# EAGLE library part MIC826RYMT-TR (library mic826rymt-tr)
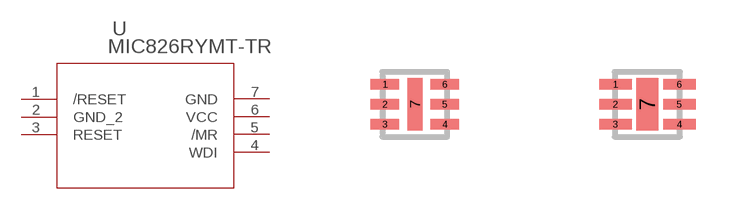
[diagram p0: symbol with the pads of UDFN6_HKA_MCH; footprints UDFN6_HKA_MCH, UDFN6_HKA_MCH-M]

Designator prefix U

## MIC826RYMT-TR (COPYRIGHT: Copyright (C) 2023 Ultra Librarian. All rights reserved.; DIGI-KEY_PART_NUMBER_1: 576-4360-1-ND; DIGI-KEY_PART_NUMBER_2: 576-4360-2-ND; DIGI-KEY_PART_NUMBER_3: 576-4360-6-ND; MANUFACTURER_PART_NUMBER: MIC826RYMT-TR; MFR_NAME: Microchip)  [UDFN6_HKA_MCH]
1  /RESET  out
2  GND_2  pwr
3  RESET  out
4  WDI  in
5  /MR  in
6  VCC  pwr
7  GND  pas

## MIC826RYMT-TRUDFN6_HKA_MCH-M (COPYRIGHT: Copyright (C) 2023 Ultra Librarian. All rights reserved.; DIGI-KEY_PART_NUMBER_1: 576-4360-1-ND; DIGI-KEY_PART_NUMBER_2: 576-4360-2-ND; DIGI-KEY_PART_NUMBER_3: 576-4360-6-ND; MANUFACTURER_PART_NUMBER: MIC826RYMT-TR; MFR_NAME: Microchip)  [UDFN6_HKA_MCH-M]
Pads as for UDFN6_HKA_MCH

## MIC826RYMT-TRUDFN6_HKA_MCH-L (COPYRIGHT: Copyright (C) 2023 Ultra Librarian. All rights reserved.; DIGI-KEY_PART_NUMBER_1: 576-4360-1-ND; DIGI-KEY_PART_NUMBER_2: 576-4360-2-ND; DIGI-KEY_PART_NUMBER_3: 576-4360-6-ND; MANUFACTURER_PART_NUMBER: MIC826RYMT-TR; MFR_NAME: Microchip)  [UDFN6_HKA_MCH-L]
Pads as for UDFN6_HKA_MCH

## Footprint UDFN6_HKA_MCH (pad centres in mm)
smd 0.711 x 0.254: 1 -0.749,0.5; 2 -0.749,0; 3 -0.749,-0.5; 4 0.749,-0.5; 5 0.749,0; 6 0.749,0.5
smd 0.381 x 1.321: 7 0,0

## Footprint UDFN6_HKA_MCH-M (pad centres in mm)
smd 0.813 x 0.254: 1 -0.8,0.5; 2 -0.8,0; 3 -0.8,-0.5; 4 0.8,-0.5; 5 0.8,0; 6 0.8,0.5
smd 0.559 x 1.321: 7 0,0

## Footprint UDFN6_HKA_MCH-L (pad centres in mm)
smd 0.61 x 0.254: 1 -0.699,0.5; 2 -0.699,0; 3 -0.699,-0.5; 4 0.699,-0.5; 5 0.699,0; 6 0.699,0.5
smd 0.559 x 1.321: 7 0,0